# Altium schematic symbol library plink.SchLib: 1 symbol
Pins are listed as number, name and electrical type; pins without a type are passive.

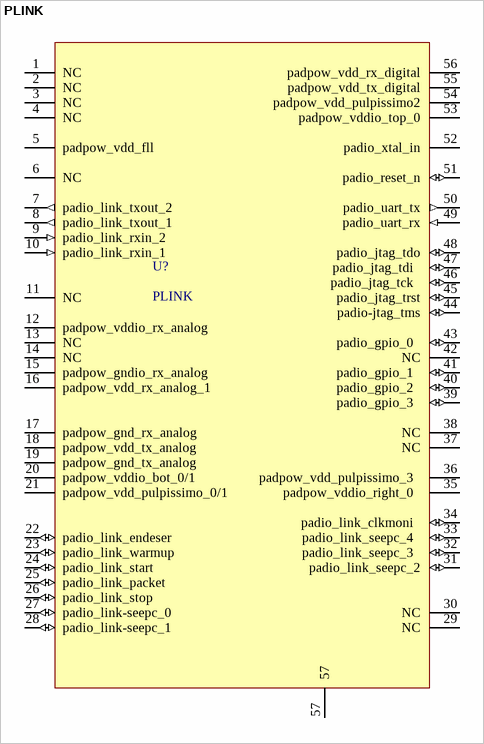
[diagram p0: symbol PLINK]

## PLINK
designator U?
footprint QFN56_M (QFN, 56-Leads, Body 8x8mm, Pitch 0.5mm, Thermal Pad 6.5x6.5mm, IPC Low Density)
footprint Model Name (Footprint not found)
pins: 1 NC, 2 NC, 3 NC, 4 NC, 5 padpow_vdd_fll   (power), 6 NC, 7 padio_link_txout_2 (out), 8 padio_link_txout_1   (out), 9 padio_link_rxin_2   (in), 10 padio_link_rxin_1   (in), 11 NC, 12 padpow_vddio_rx_analog   (power), 13 NC, 14 NC, 15 padpow_gndio_rx_analog   (power), 16 padpow_vdd_rx_analog_1   (power), 17 padpow_gnd_rx_analog   (power), 18 padpow_vdd_tx_analog   (power), 19 padpow_gnd_tx_analog   (power), 20 padpow_vddio_bot_0/1  , 21 padpow_vdd_pulpissimo_0/1   (power), 22 padio_link_endeser   (io), 23 padio_link_warmup   (io), 24 padio_link_start   (io), 25 padio_link_packet   (io), 26 padio_link_stop   (io), 27 padio_link-seepc_0   (io), 28 padio_link-seepc_1   (io), 29 NC, 30 NC, 31 padio_link_seepc_2 (io), 32 padio_link_seepc_3   (io), 33 padio_link_seepc_4   (io), 34 padio_link_clkmoni   (io), 35 padpow_vddio_right_0   (power), 36 padpow_vdd_pulpissimo_3   (power), 37 NC, 38 NC, 39 padio_gpio_3   (io), 40 padio_gpio_2   (io), 41 padio_gpio_1   (io), 42 NC, 43 padio_gpio_0   (io), 44 padio-jtag_tms (io), 45 padio_jtag_trst (io), 46 padio_jtag_tck   (io), 47 padio_jtag_tdi   (io), 48 padio_jtag_tdo (io), 49 padio_uart_rx (in), 50 padio_uart_tx (out), 51 padio_reset_n (io), 52 padio_xtal_in, 53 padpow_vddio_top_0 (power), 54 padpow_vdd_pulpissimo2 (power), 55 padpow_vdd_tx_digital (power), 56 padpow_vdd_rx_digital, 57